# Altium schematic symbol library 91090A120.SchLib: 1 symbol
Pins are listed as number, name and electrical type; pins without a type are passive.

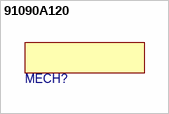
[diagram p0: symbol 91090A120]

## 91090A120
designator MECH?  (mechanical)